# EAGLE library part RJ45 (library Protofusion)
RJ45 Jack Simple RJ45, 8-pin connection - connector for common Cat5, Cat5e, and Cat6 Ethernet cables. MOLEX SMD P/N: 43743-8101
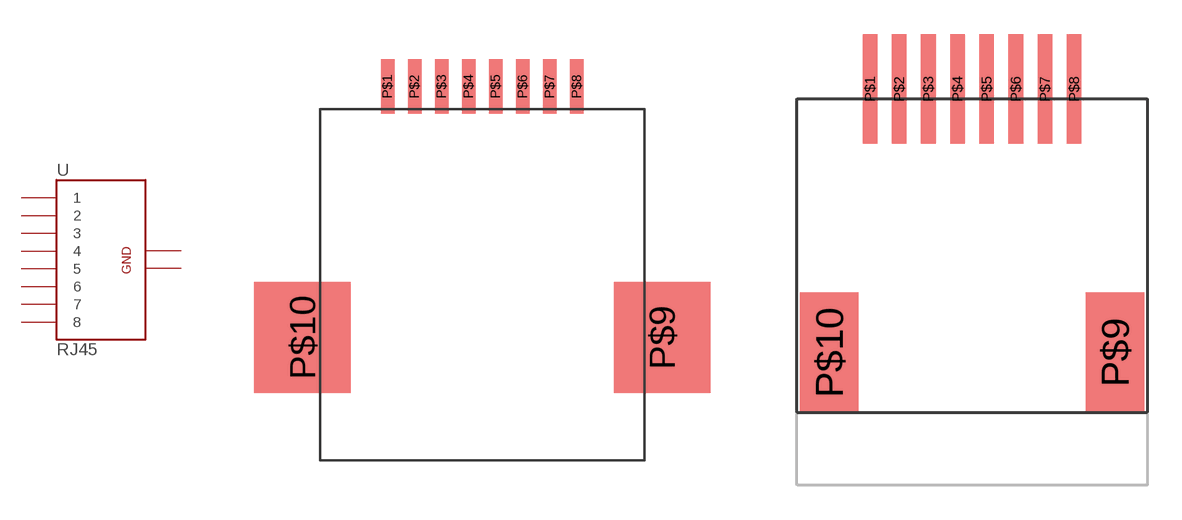
[diagram p0: symbol with the pads of RJ45-8_SMD-1; footprints RJ45-8_SMD-1, RJ45-8_SMD-2]

Designator prefix -

## RJ45BIGPKG  [RJ45-8_SMD-1]
P$1  1
P$2  2
P$3  3
P$4  4
P$5  5
P$6  6
P$7  7
P$8  8
P$9  GND0
P$10  GND1

## RJ45SMALLPKG  [RJ45-8_SMD-2]
Pads as for RJ45-8_SMD-1

## Footprint RJ45-8_SMD-1 (pad centres in mm)
smd 0.635 x 2.54: P$1 -4.445,9.957; P$2 -3.175,9.957; P$3 -1.905,9.957; P$4 -0.635,9.957; P$5 0.635,9.957; P$6 1.905,9.957; P$7 3.175,9.957; P$8 4.445,9.957
smd 4.521 x 5.207: P$9 8.445,-1.841; P$10 -8.445,-1.841

## Footprint RJ45-8_SMD-2 (pad centres in mm)
smd 0.635 x 4.75: P$1 3.175,0.432; P$2 4.445,0.432; P$3 5.715,0.432; P$4 6.985,0.432; P$5 8.255,0.432; P$6 9.525,0.432; P$7 10.795,0.432; P$8 12.065,0.432
smd 2.54 x 5.207: P$9 13.843,-11.049; P$10 1.397,-11.049